# Altium schematic symbol library 418 121 270 8xx.SchLib: 11 symbols
Pins are listed as number, name and electrical type; pins without a type are passive.

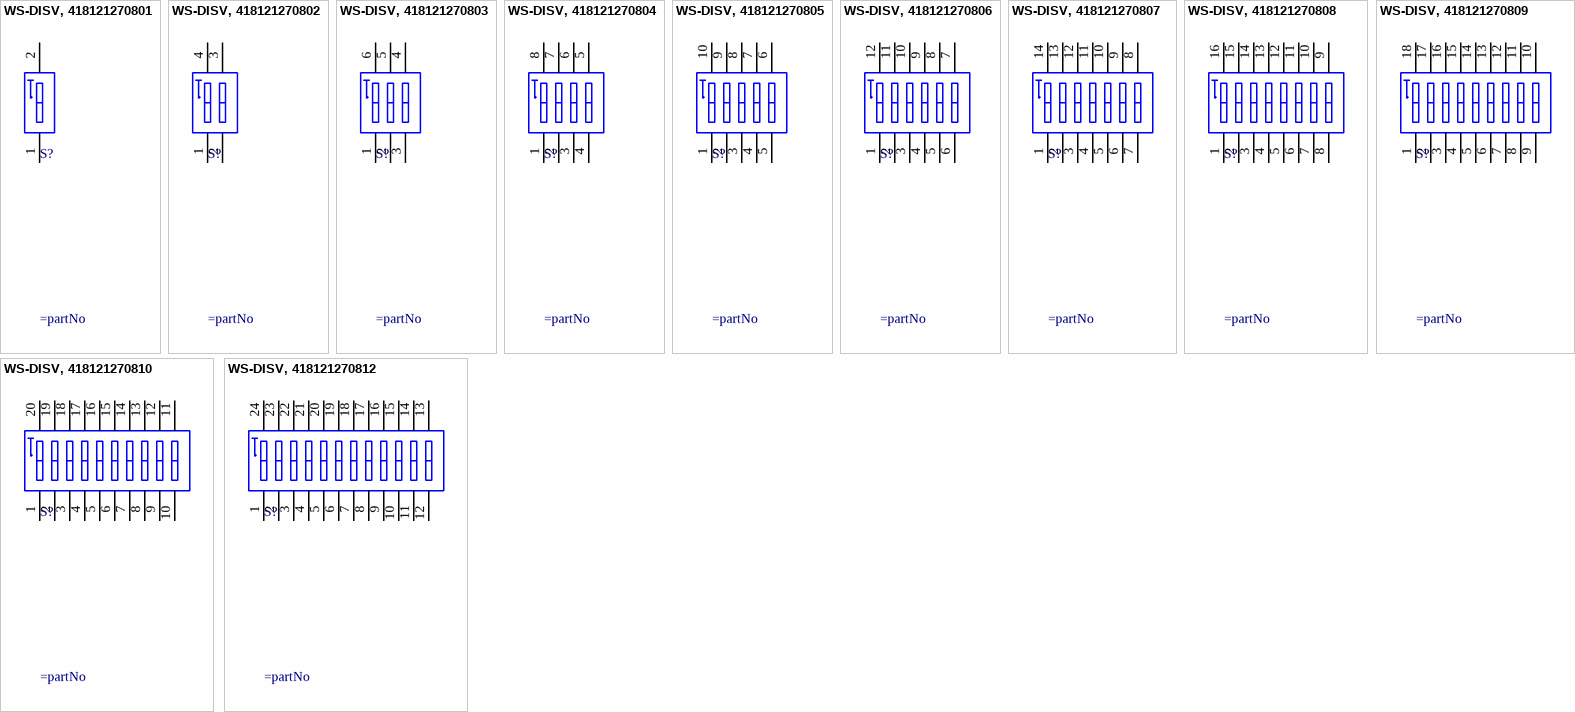
[diagram p0: symbols WS-DISV, 418121270801 to WS-DISV, 418121270812]

## WS-DISV, 418121270801
designator S?
WS-DISV 2.54 mm small compact SMD with raised actuator; Manufacturer: Wurth Elektronik; Part No.: 418121270801; ComponentLink1 Description: Manufacturer; ComponentLink2 Description: Datasheet; Pole: 01; Created Date: Dec.2015; ComponentLink1URL: http://www.we-online.com; ComponentLink2URL: http://katalog.we-online.de/em/datasheet/4181212708xx.pdf; Created by: Baojun Chen
footprint 418121270801 (01p, 2.54mm Pitch, Horizontal, IC Type, SMT, raised Actuator, black, without Tape, T&R)
pins: 1, 2

## WS-DISV, 418121270802
designator S?
WS-DISV 2.54 mm small compact SMD with raised actuator; Manufacturer: Wurth Elektronik; Part No.: 418121270802; ComponentLink1 Description: Manufacturer; ComponentLink2 Description: Datasheet; Pole: 02; Created Date: Dec.2015; ComponentLink1URL: http://www.we-online.com; ComponentLink2URL: http://katalog.we-online.de/em/datasheet/4181212708xx.pdf; Created by: Baojun Chen
footprint 418121270802 (02p, 2.54mm Pitch, Horizontal, IC Type, SMT, raised Actuator, black, without Tape, T&R)
pins: 1, 2, 3, 4

## WS-DISV, 418121270803
designator S?
WS-DISV 2.54 mm small compact SMD with raised actuator; Manufacturer: Wurth Elektronik; Part No.: 418121270803; ComponentLink1 Description: Manufacturer; ComponentLink2 Description: Datasheet; Pole: 03; Created Date: Dec.2015; ComponentLink1URL: http://www.we-online.com; ComponentLink2URL: http://katalog.we-online.de/em/datasheet/4181212708xx.pdf; Created by: Baojun Chen
footprint 418121270803 (03p, 2.54mm Pitch, Horizontal, IC Type, SMT, raised Actuator, black, without Tape, T&R)
pins: 1, 2, 3, 4, 5, 6

## WS-DISV, 418121270804
designator S?
WS-DISV 2.54 mm small compact SMD with raised actuator; Manufacturer: Wurth Elektronik; Part No.: 418121270804; ComponentLink1 Description: Manufacturer; ComponentLink2 Description: Datasheet; Pole: 04; Created Date: Dec.2015; ComponentLink1URL: http://www.we-online.com; ComponentLink2URL: http://katalog.we-online.de/em/datasheet/4181212708xx.pdf; Created by: Baojun Chen
footprint 418121270804 (04p, 2.54mm Pitch, Horizontal, IC Type, SMT, raised Actuator, black, without Tape, T&R)
pins: 1, 2, 3, 4, 5, 6, 7, 8

## WS-DISV, 418121270805
designator S?
WS-DISV 2.54 mm small compact SMD with raised actuator; Manufacturer: Wurth Elektronik; Part No.: 418121270805; ComponentLink1 Description: Manufacturer; ComponentLink2 Description: Datasheet; Pole: 05; Created Date: Dec.2015; ComponentLink1URL: http://www.we-online.com; ComponentLink2URL: http://katalog.we-online.de/em/datasheet/4181212708xx.pdf; Created by: Baojun Chen
footprint 418121270805 (05p, 2.54mm Pitch, Horizontal, IC Type, SMT, raised Actuator, black, without Tape, T&R)
pins: 1, 2, 3, 4, 5, 6, 7, 8, 9, 10

## WS-DISV, 418121270806
designator S?
WS-DISV 2.54 mm small compact SMD with raised actuator; Manufacturer: Wurth Elektronik; Part No.: 418121270806; ComponentLink1 Description: Manufacturer; ComponentLink2 Description: Datasheet; Pole: 06; Created Date: Dec.2015; ComponentLink1URL: http://www.we-online.com; ComponentLink2URL: http://katalog.we-online.de/em/datasheet/4181212708xx.pdf; Created by: Baojun Chen
footprint 418121270806 (06p, 2.54mm Pitch, Horizontal, IC Type, SMT, raised Actuator, black, without Tape, T&R)
pins: 1, 2, 3, 4, 5, 6, 7, 8, 9, 10, 11, 12

## WS-DISV, 418121270807
designator S?
WS-DISV 2.54 mm small compact SMD with raised actuator; Manufacturer: Wurth Elektronik; Part No.: 418121270807; ComponentLink1 Description: Manufacturer; ComponentLink2 Description: Datasheet; Pole: 07; Created Date: Dec.2015; ComponentLink1URL: http://www.we-online.com; ComponentLink2URL: http://katalog.we-online.de/em/datasheet/4181212708xx.pdf; Created by: Baojun Chen
footprint 418121270807 (07p, 2.54mm Pitch, Horizontal, IC Type, SMT, raised Actuator, black, without Tape, T&R)
pins: 1, 2, 3, 4, 5, 6, 7, 8, 9, 10, 11, 12, 13, 14

## WS-DISV, 418121270808
designator S?
WS-DISV 2.54 mm small compact SMD with raised actuator; Manufacturer: Wurth Elektronik; Part No.: 418121270808; ComponentLink1 Description: Manufacturer; ComponentLink2 Description: Datasheet; Pole: 08; Created Date: Dec.2015; ComponentLink1URL: http://www.we-online.com; ComponentLink2URL: http://katalog.we-online.de/em/datasheet/4181212708xx.pdf; Created by: Baojun Chen
footprint 418121270808 (08p, 2.54mm Pitch, Horizontal, IC Type, SMT, raised Actuator, black, without Tape, T&R)
pins: 1, 2, 3, 4, 5, 6, 7, 8, 9, 10, 11, 12, 13, 14, 15, 16

## WS-DISV, 418121270809
designator S?
WS-DISV 2.54 mm small compact SMD with raised actuator; Manufacturer: Wurth Elektronik; Part No.: 418121270809; ComponentLink1 Description: Manufacturer; ComponentLink2 Description: Datasheet; Pole: 09; Created Date: Dec.2015; ComponentLink1URL: http://www.we-online.com; ComponentLink2URL: http://katalog.we-online.de/em/datasheet/4181212708xx.pdf; Created by: Baojun Chen
footprint 418121270809 (09p, 2.54mm Pitch, Horizontal, IC Type, SMT, raised Actuator, black, without Tape, T&R)
pins: 1, 2, 3, 4, 5, 6, 7, 8, 9, 10, 11, 12, 13, 14, 15, 16, 17, 18

## WS-DISV, 418121270810
designator S?
WS-DISV 2.54 mm small compact SMD with raised actuator; Manufacturer: Wurth Elektronik; Part No.: 418121270810; ComponentLink1 Description: Manufacturer; ComponentLink2 Description: Datasheet; Pole: 10; Created Date: Dec.2015; ComponentLink1URL: http://www.we-online.com; ComponentLink2URL: http://katalog.we-online.de/em/datasheet/4181212708xx.pdf; Created by: Baojun Chen
footprint 418121270810 (10p, 2.54mm Pitch, Horizontal, IC Type, SMT, raised Actuator, black, without Tape, T&R)
pins: 1, 2, 3, 4, 5, 6, 7, 8, 9, 10, 11, 12, 13, 14, 15, 16, 17, 18, 19, 20

## WS-DISV, 418121270812
designator S?
WS-DISV 2.54 mm small compact SMD with raised actuator; Manufacturer: Wurth Elektronik; Part No.: 418121270812; ComponentLink1 Description: Manufacturer; ComponentLink2 Description: Datasheet; Pole: 12; Created Date: Dec.2015; ComponentLink1URL: http://www.we-online.com; ComponentLink2URL: http://katalog.we-online.de/em/datasheet/4181212708xx.pdf; Created by: Baojun Chen
footprint 418121270812 (12p, 2.54mm Pitch, Horizontal, IC Type, SMT, raised Actuator, black, without Tape, T&R)
pins: 1, 2, 3, 4, 5, 6, 7, 8, 9, 10, 11, 12, 13, 14, 15, 16, 17, 18, 19, 20, 21, 22, 23, 24